# Altium schematic symbol library UOMP_power.SchLib: 17 symbols
Pins are listed as number, name and electrical type; pins without a type are passive.

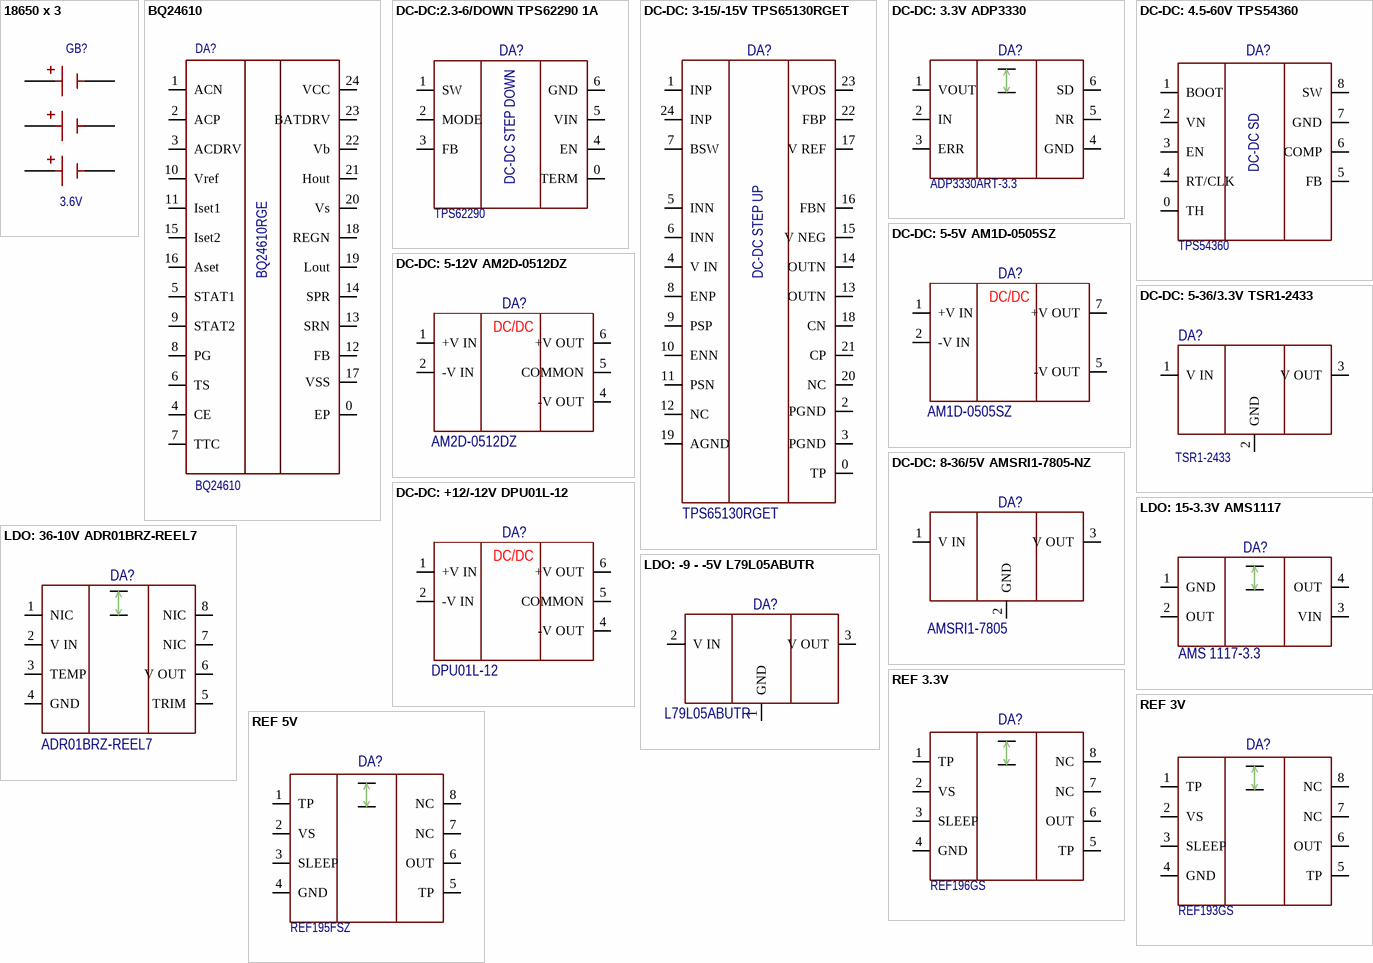
[diagram p0: symbols 18650 х 3 to REF 5V]

## 18650 х 3
designator GB?, comment 3.6V
footprint 18650х3
pins: 1+, 1-, 2+, 2-, 3+, 3-

## BQ24610
designator DA?
Code: 6339108041; Name: Микросхема BQ24610RGET, TI
footprint IC: PVQFN 24
pins: 0 EP, 1 ACN, 2 ACP, 3 ACDRV, 4 CE, 5 STAT1, 6 TS, 7 TTC, 8 PG, 9 STAT2, 10 Vref, 11 Iset1, 12 FB, 13 SRN, 14 SPR, 15 Iset2, 16 Aset, 17 VSS, 18 REGN, 19 Lout, 20 Vs, 21 Hout, 22 Vb, 23 BATDRV, 24 VCC
text: BQ24610RGE

## DC-DC:2.3-6/DOWN TPS62290 1A
designator DA?, comment TPS62290
Code: 6339120751; Name: Микросхема TPS62290DRVR, TI
footprint IC: WSON-6
pins: 0 TERM, 1 SW, 2 MODE, 3 FB, 4 EN, 5 VIN, 6 GND
text: DC-DC STEP DOWN

## DC-DC: 3-15/-15V TPS65130RGET
designator DA?, comment TPS65130RGET
Code: 6339113561; Name: Микросхема TPS65130RGET, TI
footprint IC: PVQFN 24
pins: 0 TP, 1 INP, 2 PGND, 3 PGND, 4 V IN, 5 INN, 6 INN, 7 BSW, 8 ENP, 9 PSP, 10 ENN, 11 PSN, 12 NC, 13 OUTN, 14 OUTN, 15 V NEG, 16 FBN, 17 V REF, 18 CN, 19 AGND, 20 NC, 21 CP, 22 FBP, 23 VPOS, 24 INP
text: DC-DC STEP UP

## DC-DC: 3.3V ADP3330
designator DA?, comment ADP3330ART-3.3
Code: 6335443302; Name: Микросхема ADP3330ART-3.3
footprint IC: SOT 23 6pin
pins: 1 VOUT, 2 IN, 3 ERR, 4 GND, 5 NR, 6 SD

## DC-DC: 4.5-60V TPS54360
designator DA?, comment TPS54360
Code: 6339113421; Name: Микросхема TPS54360DDA, TI
footprint IC: SOIC 8 TP
pins: 0 TH, 1 BOOT, 2 VN, 3 EN, 4 RT/CLK, 5 FB, 6 COMP, 7 GND, 8 SW
text: DC-DC SD

## DC-DC: 5-5V AM1D-0505SZ
designator DA?, comment AM1D-0505SZ
Name: Микросхема AM1D-0505SZ, AIMTEC
footprint AM1D
pins: 1 +V IN, 2 -V IN, 5 -V OUT, 7 +V OUT
text: DC/DC

## DC-DC: 5-12V AM2D-0512DZ
designator DA?, comment AM2D-0512DZ
Code: 6339113551; Name: Микросхема AM2D-0512DZ, AIMTEC
footprint DC/DC: SIP7
pins: 1 +V IN, 2 -V IN, 4 -V OUT, 5 COMMON, 6 +V OUT
text: DC/DC

## DC-DC: 5-36/3.3V TSR1-2433
designator DA?, comment TSR1-2433
Code: *; Name: *
footprint DC/DC: SIP3
pins: 1 V IN, 2 GND, 3 V OUT

## DC-DC: 8-36/5V AMSRI1-7805-NZ
designator DA?, comment AMSRI1-7805
Name: *; Code: *
footprint DC/DC: SIP3 long
pins: 1 V IN, 2 GND, 3 V OUT

## DC-DC: +12/-12V DPU01L-12
designator DA?, comment DPU01L-12
Code: 6339113551; Name: Микросхема AM2D-0512DZ, AIMTEC
footprint SIP-6
pins: 1 +V IN, 2 -V IN, 4 -V OUT, 5 COMMON, 6 +V OUT
text: DC/DC

## LDO: 15-3.3V AMS1117
designator DA?, comment AMS 1117-3.3
Code: 6339112951; Name: Микросхема AMS-1117-3.3
footprint IC: SOT 223
pins: 1 GND, 2 OUT, 3 VIN, 4 OUT

## LDO: 36-10V ADR01BRZ-REEL7
designator DA?, comment ADR01BRZ-REEL7
Code: 6335452201; Name: Микросхема ADR01BRZ-REEL7, AD
footprint IC: SOIC 8
pins: 1 NIC, 2 V IN, 3 TEMP, 4 GND, 5 TRIM, 6 V OUT, 7 NIC, 8 NIC

## LDO: -9 - -5V L79L05ABUTR
designator DA?, comment L79L05ABUTR
Code: 6335107903; Name: Микросхема L79L05ABUTR, STM
footprint IC: SOT 89
pins: 1 GND, 2 V IN, 3 V OUT

## REF 3.3V
designator DA?, comment REF196GS
Code: 6335601961; Name: Микросхема REF196GS, AD
footprint IC: SOIC 8
pins: 1 TP, 2 VS, 3 SLEEP, 4 GND, 5 TP, 6 OUT, 7 NC, 8 NC

## REF 3V
designator DA?, comment REF193GS
Code: 6330010991; Name: Микросхема REF193GSZ-REEL, AD
footprint IC: SOIC 8
pins: 1 TP, 2 VS, 3 SLEEP, 4 GND, 5 TP, 6 OUT, 7 NC, 8 NC

## REF 5V
designator DA?, comment REF195FSZ
Code: 6339105421; Name: Микросхема REF195FSZ, AD
footprint IC: SOIC 8
pins: 1 TP, 2 VS, 3 SLEEP, 4 GND, 5 TP, 6 OUT, 7 NC, 8 NC